# Altium schematic symbol library E-01-MB_Schlib.SchLib: 5 symbols
Pins are listed as number, name and electrical type; pins without a type are passive.

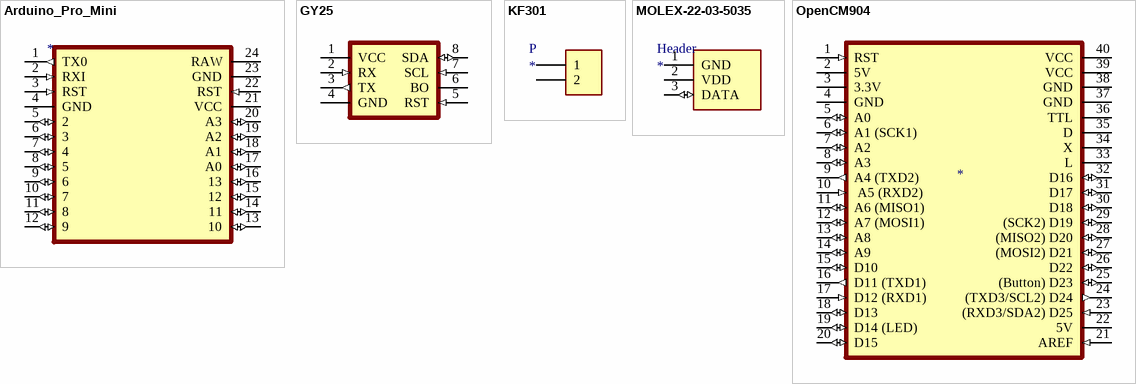
[diagram p0: symbols Arduino_Pro_Mini to OpenCM904]

## Arduino_Pro_Mini
designator BOARD
footprint Arduino-Pro-Mini
pins: 1 TX0 (out), 2 RXI (in), 3 RST (in), 4 GND (power), 5 2 (io), 6 3 (io), 7 4 (io), 8 5 (io), 9 6 (io), 10 7 (io), 11 8 (io), 12 9 (io), 13 10 (io), 14 11 (io), 15 12 (io), 16 13 (io), 17 A0 (io), 18 A1 (io), 19 A2 (io), 20 A3 (io), 21 VCC (power), 22 RST (in), 23 GND (power), 24 RAW (power)

## GY25
designator GY-Sensor  (value not drawn)
footprint GY25
pins: 1 VCC (power), 2 RX (in), 3 TX (out), 4 GND (power), 5 RST (in), 6 BO, 7 SCL (in), 8 SDA (io)

## KF301
designator P
footprint KF301
pins: 1, 2

## MOLEX-22-03-5035
designator Header
footprint MOLEX-22-03-5035
pins: 1 GND (power), 2 VDD (power), 3 DATA (io)

## OpenCM904
designator BOARD
footprint OpenCM904-DIP40
pins: 1 RST (in), 2 5V (power), 3 3.3V (power), 4 GND (power), 5 A0 (io), 6 A1 (SCK1) (io), 7 A2 (io), 8 A3 (io), 9 A4 (TXD2) (out), 10  A5 (RXD2) (in), 11 A6 (MISO1) (io), 12 A7 (MOSI1) (io), 13 A8 (io), 14 A9 (io), 15 D10 (io), 16 D11 (TXD1) (out), 17 D12 (RXD1) (in), 18 D13 (io), 19 D14 (LED) (io), 20 D15 (io), 21 AREF (in), 22 5V (power), 23 (RXD3/SDA2) D25 (in), 24 (TXD3/SCL2) D24 (out), 25 (Button) D23 (io), 26 D22 (io), 27 (MOSI2) D21 (io), 28 (MISO2) D20 (io), 29 (SCK2) D19 (io), 30 D18 (io), 31 D17 (io), 32 D16 (io), 33 L, 34 X, 35 D, 36 TTL, 37 GND (power), 38 GND (power), 39 VCC (power), 40 VCC (power)